# EAGLE library part 74HC238 (library bschulz)
74HC238 - 3 to 8 line Decoder/Demultiplexer Characteristics: VCC: 2 ~ 6V Output: Active HIGH Operating Temperature: -40°C to 85°C Digikey: 1727-6927-1-ND (VQFN) <https://www.digikey.com/en/products/detail/nexperia-usa-inc/74HCT238BQ-115/1966021>
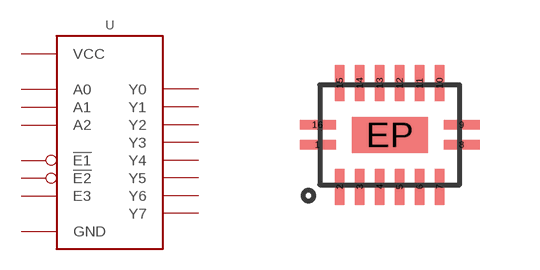
[diagram p186: symbol with the pads of VQFN-16; footprint VQFN-16]

Designator prefix U

## 74HC238 (DIGIKEY: 1727-6927-6-ND; DISP: 74HC238; MF: Nexperia; MPN: 74HCT238BQ,115)  [VQFN-16]
1  A0  in
2  A1  in
3  A2  in
4  !E1  in
5  !E2  in
6  E3  in
7  Y7  out
8  GND  pwr
9  Y6  out
10  Y5  out
11  Y4  out
12  Y3  out
13  Y2  out
14  Y1  out
15  Y0  out
16  VCC  pwr
EP  GND  pwr

## Footprint VQFN-16 (pad centres in mm)
DHVQFN, 16 Pos (SOT763-1) Datasheet <https://assets.nexperia.com/documents/package-information/SOT763-1.pdf>
smd 0.9 x 0.24: 1 -1.8,-0.25; 8 1.8,-0.25; 9 1.8,0.25; 16 -1.8,0.25
smd 0.24 x 0.9: 2 -1.25,-1.3; 3 -0.75,-1.3; 4 -0.25,-1.3; 5 0.25,-1.3; 6 0.75,-1.3; 7 1.25,-1.3; 10 1.25,1.3; 11 0.75,1.3; 12 0.25,1.3; 13 -0.25,1.3; 14 -0.75,1.3; 15 -1.25,1.3
smd 1.9 x 0.9: EP 0,0